# Altium footprint library connector_misc.PcbLib: 64 footprints (part 3 of 4)
Each footprint in its own frame and in the unit in brackets; x right, y up, seen from the top. Pads: shape width x height; smd on the part's side, far side on the other; paste and mask are expansions set on the pad; w line width, h text height; cw(c..) or ccw(c..) is an arc to the next point about the centre after c.
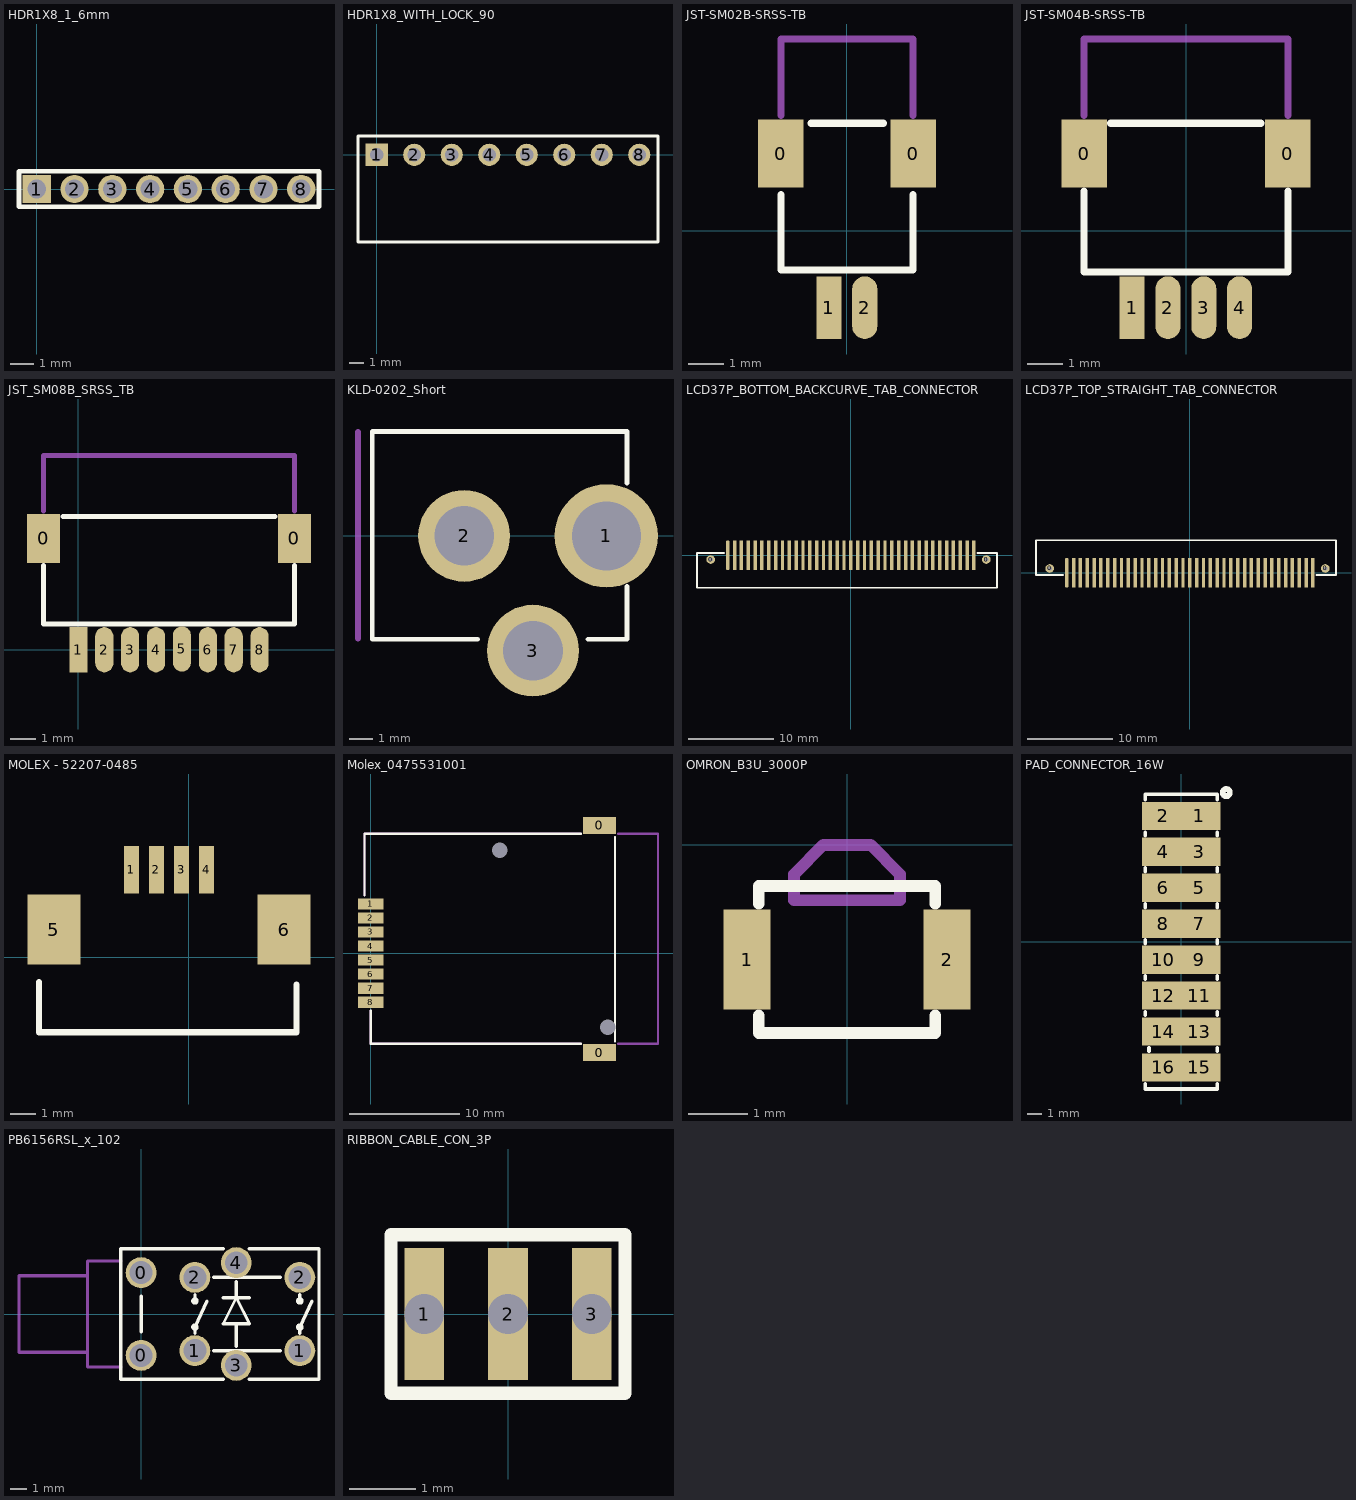
[diagram p2: the footprints below, top view; thin cyan lines are the x and y axes]

## HDR1X8_1_6mm [mm]
pads (8):
  rect 1.2x1.2 hole 0.8: 1(0,0)
  round 1.2 hole 0.8: 2(1.6,0) 3(3.2,0) 4(4.8,0) 5(6.4,0) 6(8,0) 7(9.6,0) 8(11.2,0)
Top Overlay:
  lines w0.203: -0.75,-0.75 -0.75,0.75 11.95,0.75 11.95,-0.75 -0.75,-0.75

## HDR1X8_WITH_LOCK_90 [mm]
pads (8):
  rect 1.5x1.5 hole 0.9: 1(0,0)
  round 1.5 hole 0.9: 2(2.54,0) 3(5.08,0) 4(7.62,0) 5(10.16,0) 6(12.7,0) 7(15.24,0) 8(17.78,0)
Top Overlay:
  lines w0.2: -1.27,-5.9 19.05,-5.9 19.05,1.27 -1.27,1.27 -1.27,-5.9
3D body: height 6.48, standoff -3.46, extent -1.26,-12.491 19.06,0.336

## JST-SHR-04V-S-B [mm] "4 way plug connector."
height 2.9
3D body: height 2.6, standoff -0.2, extent -3.55,-2.505 3.45,2.495

## JST-SM02B-SRSS-TB [mm] "4 way header connector."
height 2.9
pads (4):
  rect 1.27x1.905 smd: 0(-1.847,2.15) 0(1.847,2.15)
  rect 0.7x1.75 smd: 1(-0.503,-2.15)
  oval 0.7x1.75 smd: 2(0.497,-2.15)
Top Overlay:
  lines w0.2: -1.847,1 -1.847,-1.1 1.847,-1.1 1.847,1 ; -1.005,3 1.01,3
Mechanical 2:
  lines w0.2: -1.847,3.21 -1.847,5.35 1.847,5.35 1.847,3.21
3D body: height 2.9, standoff -0.1, extent -1.995,-1.888 1.993,3.098

## JST-SM04B-SRSS-TB [mm] "4 way header connector."
height 2.9
pads (6):
  rect 1.27x1.905 smd: 0(-2.847,2.15) 0(2.847,2.15)
  rect 0.7x1.75 smd: 1(-1.503,-2.15)
  oval 0.7x1.75 smd: 2(-0.503,-2.15) 3(0.497,-2.15) 4(1.497,-2.15)
Top Overlay:
  lines w0.2: -2.847,1.1 -2.847,-1.15 2.847,-1.15 2.847,1.1 ; -2.103,3 2.097,3
Mechanical 2:
  lines w0.2: -2.847,3.21 -2.847,5.35 2.847,5.35 2.847,3.21
3D body: height 2.96, standoff 0, extent -3.03,-2.295 2.97,2.655

## JST-SSH-003T-P0.2-CRIMP [mm] "JST crimp for JST plug connector."
height 1

## JST_SM08B_SRSS_TB [mm] "SM08B-SRSS-TB(LF)(SN) - HEADER, R/A, 8WAY"
height 2.9
pads (10):
  rect 1.27x1.905 smd: 0(-1.343,4.3) 0(8.343,4.3)
  rect 0.7x1.75 smd: 1(0,0)
  oval 0.7x1.75 smd: 2(1,0) 3(2,0) 4(3,0) 5(4,0.03) 6(5,0) 7(6,0) 8(7,0)
Top Overlay:
  lines w0.2: -1.343,3.25 -1.343,1 8.343,1 8.343,3.25 ; -0.6,5.15 7.6,5.15
Mechanical 2:
  lines w0.2: -1.343,5.36 -1.343,7.5 8.343,7.5 8.343,5.36
3D body: height 3.25, standoff 0.3, extent -1.51,-0.345 8.49,4.605

## KLD-0202_Short [mm]
pads (3):
  round 4.5 hole 3: 1(13.7,0)
  round 4 hole 2.6: 2(7.5,0) 3(10.5,-5)
Top Overlay:
  lines w0.2: 8.1,-4.5 3.5,-4.5 3.5,4.55 14.6,4.55 14.6,2.3 ; 12.9,-4.5 14.6,-4.5 14.6,-2.2
Mechanical 1:
  lines w0.254: 2.875,-4.475 2.875,4.525
3D body: height 11.18, standoff -3.6, extent 0.097,-4.922 14.575,4.55

## LCD37P_BOTTOM_BACKCURVE_TAB_CONNECTOR [mm] "CFAF240320K-024T-TS LCD TAB_CONNECTOR"
pads (39):
  round 1 hole 0.5: 0(-16.4,-0.5) 0(15.85,-0.5)
  oval 0.4x3.5 smd: 1(-14.4,0)
  rect 0.4x3.5 smd: 2(-13.6,0) 3(-12.8,0) 4(-12,0) 5(-11.2,0) 6(-10.4,0) 7(-9.6,0) 8(-8.8,0) 9(-8,0) 10(-7.2,0) 11(-6.4,0) 12(-5.6,0) 13(-4.8,0) 14(-4,0) 15(-3.2,0) 16(-2.4,0) 17(-1.6,0) 18(-0.8,0) 19(0,0) 20(0.8,0) 21(1.6,0) 22(2.4,0) 23(3.2,0) 24(4,0) 25(4.8,0) 26(5.6,0) 27(6.4,0) 28(7.2,0) 29(8,0) 30(8.8,0) 31(9.6,0) 32(10.4,0) 33(11.2,0) 34(12,0) 35(12.8,0) 36(13.6,0) 37(14.4,0)
Top Overlay:
  lines w0.2: -14.8,0.25 -18,0.25 -18,-3.8 17.09,-3.8 ; 14.8,0.25 17.1,0.25 17.1,-3.8

## LCD37P_TOP_STRAIGHT_TAB_CONNECTOR [mm] "CFAF240320K-024T-TS LCD TAB_CONNECTOR"
pads (39):
  round 1 hole 0.5: 0(-16.4,0.5) 0(15.85,0.5)
  oval 0.4x3.5 smd: 1(-14.4,0)
  rect 0.4x3.5 smd: 2(-13.6,0) 3(-12.8,0) 4(-12,0) 5(-11.2,0) 6(-10.4,0) 7(-9.6,0) 8(-8.8,0) 9(-8,0) 10(-7.2,0) 11(-6.4,0) 12(-5.6,0) 13(-4.8,0) 14(-4,0) 15(-3.2,0) 16(-2.4,0) 17(-1.6,0) 18(-0.8,0) 19(0,0) 20(0.8,0) 21(1.6,0) 22(2.4,0) 23(3.2,0) 24(4,0) 25(4.8,0) 26(5.6,0) 27(6.4,0) 28(7.2,0) 29(8,0) 30(8.8,0) 31(9.6,0) 32(10.4,0) 33(11.2,0) 34(12,0) 35(12.8,0) 36(13.6,0) 37(14.4,0)
Top Overlay:
  lines w0.2: -14.8,-0.25 -18,-0.25 -18,3.8 17.1,3.8 17.1,-0.25 14.8,-0.25

## MOLEX - 52207-0485 [mm] "MOLEX - 52207-0485 FPC CONNECTOR, PCB, 4WAY"
pads (6):
  rect 0.6x1.9 smd: 1(-2.3,3.5) 2(-1.3,3.5) 3(-0.3,3.5) 4(0.7,3.5)
  rect 2.1x2.8 smd: 5(-5.4,1.1) 6(3.8,1.1)
Top Overlay:
  lines w0.254: -6,-1 -6,-3 2.6,-3 ; 4.3,-1.1 4.3,-3 ; 2.6,-3 4.3,-3 ; 2.6,-3 4.3,-3
3D body: height 2.75, standoff 0.05, extent -5.95,-4.7 4.35,4.2

## Molex_0475531001 [mm] "Molex sim connector, without sim present pin"
pads (12):
  round 0 hole 1.4: 0(11.67,9.3) 0(21.47,-6.7)
  rect 3x1.5 smd: 0(20.7,-9) 0(20.7,11.55)
  rect 2.3x1 smd: 1(0,4.45) 2(0,3.18) 3(0,1.91) 4(0,0.64) 5(0,-0.64) 6(0,-1.91) 7(0,-3.18) 8(0,-4.45)
Top Overlay:
  lines w0.2: -0.55,5.2 -0.55,10.8 19,10.8 ; 0,-5.2 0,-8.2 19,-8.2 ; 22.1,-8 22.1,10.5
Mechanical 1:
  lines w0.2: -0.55,5.2 -0.55,10.8 19,10.8 ; 0,-5.2 0,-8.2 19,-8.2 ; 22.1,-8 22.1,10.5 ; 22.4,-8.2 26,-8.2 26,10.8 22.4,10.8
3D body: height 1.94, standoff -0.56, extent -0.52,-8.95 25.98,12

## OMRON_B3U_3000P [mm] "Ultra small tactile switch."
height 1.22
pads (2):
  rect 0.8x1.7 smd: 1(-1.7,-1.95) 2(1.7,-1.95)
Top Overlay:
  lines w0.2: -1.5,-2.9 -1.5,-3.2 1.5,-3.2 1.5,-2.9 ; -1.5,-1 -1.5,-0.7 1.5,-0.7 1.5,-1
Mechanical 2:
  lines w0.2: -0.9,-0.94 0.9,-0.94 0.9,-0.5 0.4,0 -0.4,0 -0.9,-0.5 -0.9,-0.94
3D body: height 1.2, standoff 0, extent -1.97,-3.2 2.03,0

## PAD_CONNECTOR_16W [mm] "CCM PreciDIP connector"
pads (16):
  rect 3x2 smd: 1(1.27,8.89) 2(-1.27,8.89) 3(1.27,6.35) 4(-1.27,6.35) 5(1.27,3.81) 6(-1.27,3.81) 7(1.27,1.27) 8(-1.27,1.27) 9(1.27,-1.27) 10(-1.27,-1.27) 11(1.27,-3.81) 12(-1.27,-3.81) 13(1.27,-6.35) 14(-1.27,-6.35) 15(1.27,-8.89) 16(-1.27,-8.89)
Top Overlay:
  circle w0.4: c3.175,10.541 r0.254
  lines w0.254: -2.54,-10.033 -2.54,-10.414 2.54,-10.414 2.54,-10.033 ; -2.54,-5.207 -2.54,-4.953 ; -2.54,-2.667 -2.54,-2.413 ; -2.54,-0.127 -2.54,0.127 ; -2.54,2.413 -2.54,2.667 ; -2.54,4.953 -2.54,5.207 ; -2.54,7.493 -2.54,7.747 ; -2.54,10.033 -2.54,10.414 2.54,10.414 2.54,10.033 ; -2.286,-7.747 -2.286,-7.493 ; 2.54,-7.747 2.54,-7.493 ; 2.54,-5.207 2.54,-4.953 ; 2.54,-2.667 2.54,-2.413 ; 2.54,-0.127 2.54,0.127 ; 2.54,2.413 2.54,2.667 ; 2.54,4.953 2.54,5.207 ; 2.54,7.493 2.54,7.747
3D body: height 5, standoff 0, extent -2.55,-10.14 2.53,10.18

## PB6156RSL_x_102 [mm] "Monostable push button with led."
pads (8):
  round 1.9 hole 1.4: 0(0,-2.54) 0(0,2.54) 1(3.3,-2.25) 1(9.74,-2.25) 2(3.3,2.25) 2(9.74,2.25) 3(5.84,-3.15) 4(5.84,3.15)
Top Overlay:
  circle w0.254: c9.74,0.8 r0.1
  circle w0.254: c9.74,-0.8 r0.1
  circle w0.254: c3.3,-0.8 r0.1
  circle w0.254: c3.3,0.8 r0.1
  lines w0.2: 0,-1.1 0,1.1 ; 3.3,-1.2 3.3,-0.8 4.05,0.8 ; 3.3,0.8 3.3,1.2 ; 4.45,-2.25 8.55,-2.25 ; 4.45,2.25 8.55,2.25 ; 5.04,1 6.64,1 ; 5.06,-4 -1.26,-4 -1.26,4 5.06,4 ; 5.84,-2 5.84,-0.6 ; 5.84,2 5.84,1 ; 6.62,-4 10.92,-4 10.92,4 6.62,4 ; 9.74,-1.2 9.74,-0.8 10.49,0.8 ; 9.74,0.8 9.74,1.2 ; 5.84,1 5.04,-0.6 6.64,-0.6 5.84,1
Mechanical 2:
  lines w0.2: -3.3,-2.35 -7.5,-2.35 -7.5,2.35 -3.3,2.35 ; -1.26,-3.25 -3.3,-3.25 -3.3,3.25 -1.26,3.25

## RIBBON_CABLE_CON_3P [mm] "Custom ribbon cable connector."
height 0.1
pads (3):
  rect 0.6x2 hole 0.6: 1(-1.27,0) 2(0,0) 3(1.27,0)
Top Overlay:
  lines w0.2: -1.77,-1.2 -1.77,1.2 1.77,1.2 1.77,-1.2 -1.77,-1.2